# Altium integrated library Microchip Thermal Management.IntLib: 360 symbols (part 10 of 10)
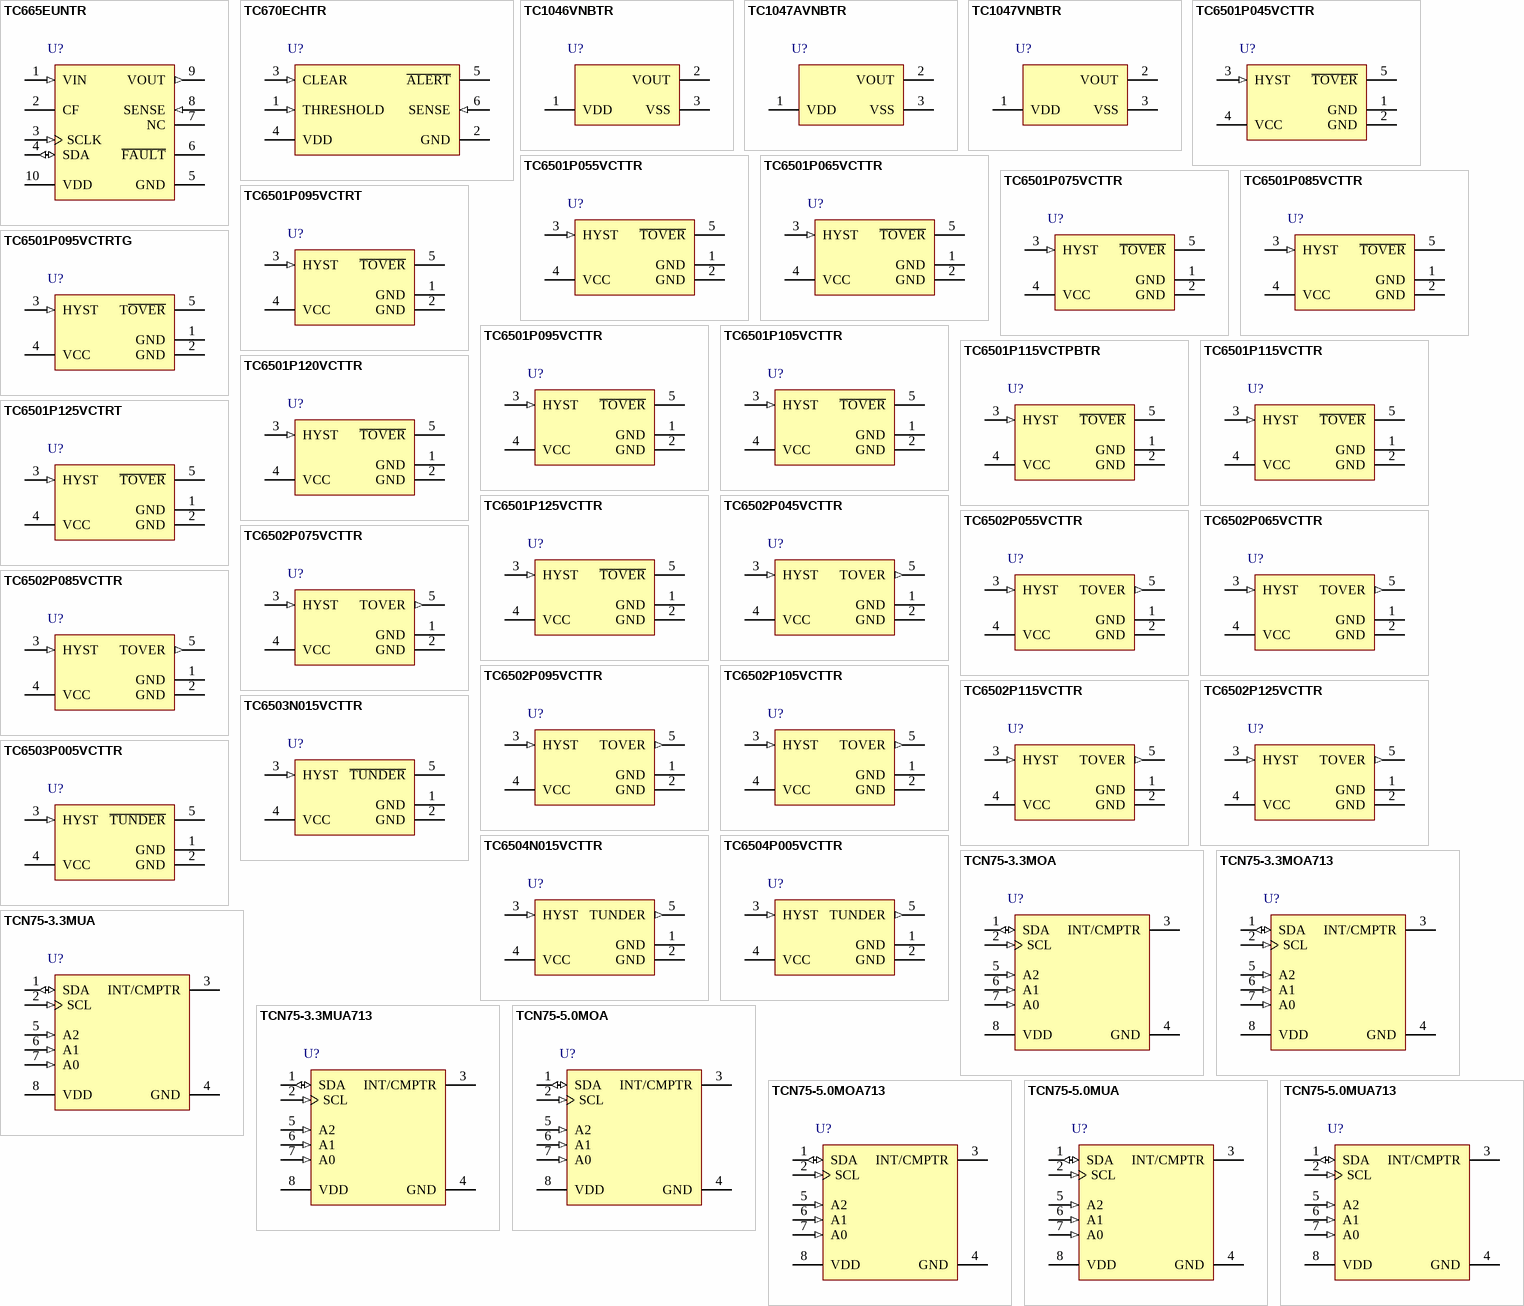
[diagram p18: symbols TC665EUNTR to TCN75-5.0MUA713]

## TC6502P055VCTTR
designator U?
Ultra Small Temperature Switches with Pin Selectable Hysteresis, 5-Pin SOT-23, -55°C to +125°C Temperature, Tape and Reel; Manufacturer: Microchip; PartNumber: TC6502P055VCTTR; DatasheetVersion: revD, Jan-2004; PackageVersion: revBB, Aug-2009; PackageReference: SOT-23-CT5; PackageDescription: 5-Lead Plastic Small Outline Transistor (CT) [SOT-23]; Supplier 1: Digi-Key; Supplier Part Number 1: TC6502P055VCTR-ND; Supplier 2: Digi-Key; Supplier Part Number 2: TC6502P055VCCT-ND; Supplier 3: Digi-Key; Supplier Part Number 3: TC6502P055VCDKR-ND; Supplier 4: Newark; Supplier Part Number 4: 92C6385; Supplier 5: Mouser; Supplier Part Number 5: 579-TC6502P055VCTTR; Mounting Technology: Surface Mount; Code_IPC: SOT23-5; ComponentLink1Description: Manufacturer URL; ComponentLink1URL: http://www.microchip.com/; ComponentLink2Description: Datasheet; ComponentLink2URL: http://ww1.microchip.com/downloads/en/DeviceDoc/21451d.pdf; ComponentLink3Description: Package Specification; ComponentLink3URL: http://www.microchip.com/stellent/groups/techpub_sg/documents/packagingspec/en012702.pdf
footprint SOT-23-CT5_N (SOT23, 5-Leads, Body 2.9x1.6mm, Pitch 0.95mm, Lead Span 2.7mm, IPC Medium Density)
footprint SOT-23-CT5_L (SOT23, 5-Leads, Body 2.9x1.6mm, Pitch 0.95mm, Lead Span 2.7mm, IPC High Density)
footprint SOT-23-CT5_M (SOT23, 5-Leads, Body 2.9x1.6mm, Pitch 0.95mm, Lead Span 2.7mm, IPC Low Density)
pins: 1 GND (power), 2 GND (power), 3 HYST (in), 4 VCC (power), 5 TOVER (out)

## TC6502P065VCTTR
designator U?
Ultra Small Temperature Switches with Pin Selectable Hysteresis, 5-Pin SOT-23, -55°C to +125°C Temperature, Tape and Reel; Manufacturer: Microchip; PartNumber: TC6502P065VCTTR; DatasheetVersion: revD, Jan-2004; PackageVersion: revBB, Aug-2009; PackageReference: SOT-23-CT5; PackageDescription: 5-Lead Plastic Small Outline Transistor (CT) [SOT-23]; Supplier 1: Digi-Key; Supplier Part Number 1: TC6502P065VCTR-ND; Supplier 2: Digi-Key; Supplier Part Number 2: TC6502P065VCCT-ND; Supplier 3: Digi-Key; Supplier Part Number 3: TC6502P065VCDKR-ND; Supplier 4: Farnell; Supplier Part Number 4: 1439504RL; Supplier 5: Farnell; Supplier Part Number 5: 1439504; Supplier 6: Newark; Supplier Part Number 6: 92C6386; Supplier 7: Mouser; Supplier Part Number 7: 579-TC6502P065VCTTR; Mounting Technology: Surface Mount; Code_IPC: SOT23-5; ComponentLink1Description: Manufacturer URL; ComponentLink1URL: http://www.microchip.com/; ComponentLink2Description: Datasheet; ComponentLink2URL: http://ww1.microchip.com/downloads/en/DeviceDoc/21451d.pdf; ComponentLink3Description: Package Specification; ComponentLink3URL: http://www.microchip.com/stellent/groups/techpub_sg/documents/packagingspec/en012702.pdf
footprint SOT-23-CT5_N (SOT23, 5-Leads, Body 2.9x1.6mm, Pitch 0.95mm, Lead Span 2.7mm, IPC Medium Density)
footprint SOT-23-CT5_L (SOT23, 5-Leads, Body 2.9x1.6mm, Pitch 0.95mm, Lead Span 2.7mm, IPC High Density)
footprint SOT-23-CT5_M (SOT23, 5-Leads, Body 2.9x1.6mm, Pitch 0.95mm, Lead Span 2.7mm, IPC Low Density)
pins: 1 GND (power), 2 GND (power), 3 HYST (in), 4 VCC (power), 5 TOVER (out)

## TC6502P075VCTTR
designator U?
Ultra Small Temperature Switches with Pin Selectable Hysteresis, 5-Pin SOT-23, -55°C to +125°C Temperature, Tape and Reel; Manufacturer: Microchip; PartNumber: TC6502P075VCTTR; DatasheetVersion: revD, Jan-2004; PackageVersion: revBB, Aug-2009; PackageReference: SOT-23-CT5; PackageDescription: 5-Lead Plastic Small Outline Transistor (CT) [SOT-23]; Supplier 1: Digi-Key; Supplier Part Number 1: TC6502P075VCTR-ND; Supplier 2: Digi-Key; Supplier Part Number 2: TC6502P075VCCT-ND; Supplier 3: Digi-Key; Supplier Part Number 3: TC6502P075VCDKR-ND; Supplier 4: Newark; Supplier Part Number 4: 92C6387; Supplier 5: Mouser; Supplier Part Number 5: 579-TC6502P075VCTTR; Mounting Technology: Surface Mount; Code_IPC: SOT23-5; ComponentLink1Description: Manufacturer URL; ComponentLink1URL: http://www.microchip.com/; ComponentLink2Description: Datasheet; ComponentLink2URL: http://ww1.microchip.com/downloads/en/DeviceDoc/21451d.pdf; ComponentLink3Description: Package Specification; ComponentLink3URL: http://www.microchip.com/stellent/groups/techpub_sg/documents/packagingspec/en012702.pdf
footprint SOT-23-CT5_N (SOT23, 5-Leads, Body 2.9x1.6mm, Pitch 0.95mm, Lead Span 2.7mm, IPC Medium Density)
footprint SOT-23-CT5_L (SOT23, 5-Leads, Body 2.9x1.6mm, Pitch 0.95mm, Lead Span 2.7mm, IPC High Density)
footprint SOT-23-CT5_M (SOT23, 5-Leads, Body 2.9x1.6mm, Pitch 0.95mm, Lead Span 2.7mm, IPC Low Density)
pins: 1 GND (power), 2 GND (power), 3 HYST (in), 4 VCC (power), 5 TOVER (out)

## TC6502P085VCTTR
designator U?
Ultra Small Temperature Switches with Pin Selectable Hysteresis, 5-Pin SOT-23, -55°C to +125°C Temperature, Tape and Reel; Manufacturer: Microchip; PartNumber: TC6502P085VCTTR; DatasheetVersion: revD, Jan-2004; PackageVersion: revBB, Aug-2009; PackageReference: SOT-23-CT5; PackageDescription: 5-Lead Plastic Small Outline Transistor (CT) [SOT-23]; Supplier 1: Digi-Key; Supplier Part Number 1: TC6502P085VCTR-ND; Supplier 2: Digi-Key; Supplier Part Number 2: TC6502P085VCCT-ND; Supplier 3: Digi-Key; Supplier Part Number 3: TC6502P085VCDKR-ND; Supplier 4: Newark; Supplier Part Number 4: 92C6388; Supplier 5: Mouser; Supplier Part Number 5: 579-TC6502P085VCTTR; Mounting Technology: Surface Mount; Code_IPC: SOT23-5; ComponentLink1Description: Manufacturer URL; ComponentLink1URL: http://www.microchip.com/; ComponentLink2Description: Datasheet; ComponentLink2URL: http://ww1.microchip.com/downloads/en/DeviceDoc/21451d.pdf; ComponentLink3Description: Package Specification; ComponentLink3URL: http://www.microchip.com/stellent/groups/techpub_sg/documents/packagingspec/en012702.pdf
footprint SOT-23-CT5_N (SOT23, 5-Leads, Body 2.9x1.6mm, Pitch 0.95mm, Lead Span 2.7mm, IPC Medium Density)
footprint SOT-23-CT5_L (SOT23, 5-Leads, Body 2.9x1.6mm, Pitch 0.95mm, Lead Span 2.7mm, IPC High Density)
footprint SOT-23-CT5_M (SOT23, 5-Leads, Body 2.9x1.6mm, Pitch 0.95mm, Lead Span 2.7mm, IPC Low Density)
pins: 1 GND (power), 2 GND (power), 3 HYST (in), 4 VCC (power), 5 TOVER (out)

## TC6502P095VCTTR
designator U?
Ultra Small Temperature Switches with Pin Selectable Hysteresis, 5-Pin SOT-23, -55°C to +125°C Temperature, Tape and Reel; Manufacturer: Microchip; PartNumber: TC6502P095VCTTR; DatasheetVersion: revD, Jan-2004; PackageVersion: revBB, Aug-2009; PackageReference: SOT-23-CT5; PackageDescription: 5-Lead Plastic Small Outline Transistor (CT) [SOT-23]; Supplier 1: Digi-Key; Supplier Part Number 1: TC6502P095VCTR-ND; Supplier 2: Digi-Key; Supplier Part Number 2: TC6502P095VCCT-ND; Supplier 3: Digi-Key; Supplier Part Number 3: TC6502P095VCDKR-ND; Supplier 4: Farnell; Supplier Part Number 4: 1439507; Supplier 5: Farnell; Supplier Part Number 5: 1439507RL; Supplier 6: Newark; Supplier Part Number 6: 92C6389; Supplier 7: Mouser; Supplier Part Number 7: 579-TC6502P095VCTTR; Mounting Technology: Surface Mount; Code_IPC: SOT23-5; ComponentLink1Description: Manufacturer URL; ComponentLink1URL: http://www.microchip.com/; ComponentLink2Description: Datasheet; ComponentLink2URL: http://ww1.microchip.com/downloads/en/DeviceDoc/21451d.pdf; ComponentLink3Description: Package Specification; ComponentLink3URL: http://www.microchip.com/stellent/groups/techpub_sg/documents/packagingspec/en012702.pdf
footprint SOT-23-CT5_N (SOT23, 5-Leads, Body 2.9x1.6mm, Pitch 0.95mm, Lead Span 2.7mm, IPC Medium Density)
footprint SOT-23-CT5_L (SOT23, 5-Leads, Body 2.9x1.6mm, Pitch 0.95mm, Lead Span 2.7mm, IPC High Density)
footprint SOT-23-CT5_M (SOT23, 5-Leads, Body 2.9x1.6mm, Pitch 0.95mm, Lead Span 2.7mm, IPC Low Density)
pins: 1 GND (power), 2 GND (power), 3 HYST (in), 4 VCC (power), 5 TOVER (out)

## TC6502P105VCTTR
designator U?
Ultra Small Temperature Switches with Pin Selectable Hysteresis, 5-Pin SOT-23, -55°C to +125°C Temperature, Tape and Reel; Manufacturer: Microchip; PartNumber: TC6502P105VCTTR; DatasheetVersion: revD, Jan-2004; PackageVersion: revBB, Aug-2009; PackageReference: SOT-23-CT5; PackageDescription: 5-Lead Plastic Small Outline Transistor (CT) [SOT-23]; Supplier 1: Digi-Key; Supplier Part Number 1: TC6502P105VCTR-ND; Supplier 2: Digi-Key; Supplier Part Number 2: TC6502P105VCCT-ND; Supplier 3: Digi-Key; Supplier Part Number 3: TC6502P105VCDKR-ND; Supplier 4: Newark; Supplier Part Number 4: 92C6390; Supplier 5: Mouser; Supplier Part Number 5: 579-TC6502P105VCTTR; Mounting Technology: Surface Mount; Code_IPC: SOT23-5; ComponentLink1Description: Manufacturer URL; ComponentLink1URL: http://www.microchip.com/; ComponentLink2Description: Datasheet; ComponentLink2URL: http://ww1.microchip.com/downloads/en/DeviceDoc/21451d.pdf; ComponentLink3Description: Package Specification; ComponentLink3URL: http://www.microchip.com/stellent/groups/techpub_sg/documents/packagingspec/en012702.pdf
footprint SOT-23-CT5_N (SOT23, 5-Leads, Body 2.9x1.6mm, Pitch 0.95mm, Lead Span 2.7mm, IPC Medium Density)
footprint SOT-23-CT5_L (SOT23, 5-Leads, Body 2.9x1.6mm, Pitch 0.95mm, Lead Span 2.7mm, IPC High Density)
footprint SOT-23-CT5_M (SOT23, 5-Leads, Body 2.9x1.6mm, Pitch 0.95mm, Lead Span 2.7mm, IPC Low Density)
pins: 1 GND (power), 2 GND (power), 3 HYST (in), 4 VCC (power), 5 TOVER (out)

## TC6502P115VCTTR
designator U?
Ultra Small Temperature Switches with Pin Selectable Hysteresis, 5-Pin SOT-23, -55°C to +125°C Temperature, Tape and Reel; Manufacturer: Microchip; PartNumber: TC6502P115VCTTR; DatasheetVersion: revD, Jan-2004; PackageVersion: revBB, Aug-2009; PackageReference: SOT-23-CT5; PackageDescription: 5-Lead Plastic Small Outline Transistor (CT) [SOT-23]; Supplier 1: Digi-Key; Supplier Part Number 1: TC6502P115VCTR-ND; Supplier 2: Digi-Key; Supplier Part Number 2: TC6502P115VCCT-ND; Supplier 3: Digi-Key; Supplier Part Number 3: TC6502P115VCDKR-ND; Supplier 4: Newark; Supplier Part Number 4: 92C6391; Supplier 5: Mouser; Supplier Part Number 5: 579-TC6502P115VCTTR; Mounting Technology: Surface Mount; Code_IPC: SOT23-5; ComponentLink1Description: Manufacturer URL; ComponentLink1URL: http://www.microchip.com/; ComponentLink2Description: Datasheet; ComponentLink2URL: http://ww1.microchip.com/downloads/en/DeviceDoc/21451d.pdf; ComponentLink3Description: Package Specification; ComponentLink3URL: http://www.microchip.com/stellent/groups/techpub_sg/documents/packagingspec/en012702.pdf
footprint SOT-23-CT5_N (SOT23, 5-Leads, Body 2.9x1.6mm, Pitch 0.95mm, Lead Span 2.7mm, IPC Medium Density)
footprint SOT-23-CT5_L (SOT23, 5-Leads, Body 2.9x1.6mm, Pitch 0.95mm, Lead Span 2.7mm, IPC High Density)
footprint SOT-23-CT5_M (SOT23, 5-Leads, Body 2.9x1.6mm, Pitch 0.95mm, Lead Span 2.7mm, IPC Low Density)
pins: 1 GND (power), 2 GND (power), 3 HYST (in), 4 VCC (power), 5 TOVER (out)

## TC6502P125VCTTR
designator U?
Ultra Small Temperature Switches with Pin Selectable Hysteresis, 5-Pin SOT-23, -55°C to +125°C Temperature, Tape and Reel; Manufacturer: Microchip; PartNumber: TC6502P125VCTTR; DatasheetVersion: revD, Jan-2004; PackageVersion: revBB, Aug-2009; PackageReference: SOT-23-CT5; PackageDescription: 5-Lead Plastic Small Outline Transistor (CT) [SOT-23]; Supplier 1: Digi-Key; Supplier Part Number 1: TC6502P125VCTTR-ND; Supplier 2: Digi-Key; Supplier Part Number 2: TC6502P125VCTTCT-ND; Supplier 3: Digi-Key; Supplier Part Number 3: TC6502P125VCTTDKR-ND; Supplier 4: Newark; Supplier Part Number 4: 89H1721; Supplier 5: Mouser; Supplier Part Number 5: 579-TC6502P125VCTTR; Mounting Technology: Surface Mount; Code_IPC: SOT23-5; ComponentLink1Description: Manufacturer URL; ComponentLink1URL: http://www.microchip.com/; ComponentLink2Description: Datasheet; ComponentLink2URL: http://ww1.microchip.com/downloads/en/DeviceDoc/21451d.pdf; ComponentLink3Description: Package Specification; ComponentLink3URL: http://www.microchip.com/stellent/groups/techpub_sg/documents/packagingspec/en012702.pdf
footprint SOT-23-CT5_N (SOT23, 5-Leads, Body 2.9x1.6mm, Pitch 0.95mm, Lead Span 2.7mm, IPC Medium Density)
footprint SOT-23-CT5_L (SOT23, 5-Leads, Body 2.9x1.6mm, Pitch 0.95mm, Lead Span 2.7mm, IPC High Density)
footprint SOT-23-CT5_M (SOT23, 5-Leads, Body 2.9x1.6mm, Pitch 0.95mm, Lead Span 2.7mm, IPC Low Density)
pins: 1 GND (power), 2 GND (power), 3 HYST (in), 4 VCC (power), 5 TOVER (out)

## TC6503N015VCTTR
designator U?
Ultra Small Temperature Switches with Pin Selectable Hysteresis, 5-Pin SOT-23, -55°C to +125°C Temperature, Tape and Reel; Manufacturer: Microchip; PartNumber: TC6503N015VCTTR; DatasheetVersion: revD, Jan-2004; PackageVersion: revBB, Aug-2009; PackageReference: SOT-23-CT5; PackageDescription: 5-Lead Plastic Small Outline Transistor (CT) [SOT-23]; Supplier 1: Digi-Key; Supplier Part Number 1: TC6503N015VCTTR-ND; Supplier 2: Digi-Key; Supplier Part Number 2: TC6503N015VCTCT-ND; Supplier 3: Digi-Key; Supplier Part Number 3: TC6503N015VCTDKR-ND; Supplier 4: Newark; Supplier Part Number 4: 92C6392; Supplier 5: Mouser; Supplier Part Number 5: 579-TC6503N015VCTTR; Mounting Technology: Surface Mount; Code_IPC: SOT23-5; ComponentLink1Description: Manufacturer URL; ComponentLink1URL: http://www.microchip.com/; ComponentLink2Description: Datasheet; ComponentLink2URL: http://ww1.microchip.com/downloads/en/DeviceDoc/21451d.pdf; ComponentLink3Description: Package Specification; ComponentLink3URL: http://www.microchip.com/stellent/groups/techpub_sg/documents/packagingspec/en012702.pdf
footprint SOT-23-CT5_N (SOT23, 5-Leads, Body 2.9x1.6mm, Pitch 0.95mm, Lead Span 2.7mm, IPC Medium Density)
footprint SOT-23-CT5_L (SOT23, 5-Leads, Body 2.9x1.6mm, Pitch 0.95mm, Lead Span 2.7mm, IPC High Density)
footprint SOT-23-CT5_M (SOT23, 5-Leads, Body 2.9x1.6mm, Pitch 0.95mm, Lead Span 2.7mm, IPC Low Density)
pins: 1 GND (power), 2 GND (power), 3 HYST (in), 4 VCC (power), 5 ~{TUNDER} (oc)

## TC6503P005VCTTR
designator U?
Ultra Small Temperature Switches with Pin Selectable Hysteresis, 5-Pin SOT-23, -55°C to +125°C Temperature, Tape and Reel; Manufacturer: Microchip; PartNumber: TC6503P005VCTTR; DatasheetVersion: revD, Jan-2004; PackageVersion: revBB, Aug-2009; PackageReference: SOT-23-CT5; PackageDescription: 5-Lead Plastic Small Outline Transistor (CT) [SOT-23]; Supplier 1: Digi-Key; Supplier Part Number 1: TC6503P005VCTTR-ND; Supplier 2: Digi-Key; Supplier Part Number 2: TC6503P005VCTCT-ND; Supplier 3: Digi-Key; Supplier Part Number 3: TC6503P005VCTDKR-ND; Supplier 4: Newark; Supplier Part Number 4: 92C6393; Supplier 5: Mouser; Supplier Part Number 5: 579-TC6503P005VCTTR; Mounting Technology: Surface Mount; Code_IPC: SOT23-5; ComponentLink1Description: Manufacturer URL; ComponentLink1URL: http://www.microchip.com/; ComponentLink2Description: Datasheet; ComponentLink2URL: http://ww1.microchip.com/downloads/en/DeviceDoc/21451d.pdf; ComponentLink3Description: Package Specification; ComponentLink3URL: http://www.microchip.com/stellent/groups/techpub_sg/documents/packagingspec/en012702.pdf
footprint SOT-23-CT5_N (SOT23, 5-Leads, Body 2.9x1.6mm, Pitch 0.95mm, Lead Span 2.7mm, IPC Medium Density)
footprint SOT-23-CT5_L (SOT23, 5-Leads, Body 2.9x1.6mm, Pitch 0.95mm, Lead Span 2.7mm, IPC High Density)
footprint SOT-23-CT5_M (SOT23, 5-Leads, Body 2.9x1.6mm, Pitch 0.95mm, Lead Span 2.7mm, IPC Low Density)
pins: 1 GND (power), 2 GND (power), 3 HYST (in), 4 VCC (power), 5 ~{TUNDER} (oc)

## TC6504N015VCTTR
designator U?
Ultra Small Temperature Switches with Pin Selectable Hysteresis, 5-Pin SOT-23, -55°C to +125°C Temperature, Tape and Reel; Manufacturer: Microchip; PartNumber: TC6504N015VCTTR; DatasheetVersion: revD, Jan-2004; PackageVersion: revBB, Aug-2009; PackageReference: SOT-23-CT5; PackageDescription: 5-Lead Plastic Small Outline Transistor (CT) [SOT-23]; Supplier 1: Digi-Key; Supplier Part Number 1: TC6504N015VCTTR-ND; Supplier 2: Digi-Key; Supplier Part Number 2: TC6504N015VCTCT-ND; Supplier 3: Digi-Key; Supplier Part Number 3: TC6504N015VCTDKR-ND; Supplier 4: Newark; Supplier Part Number 4: 92C6394; Supplier 5: Mouser; Supplier Part Number 5: 579-TC6504N015VCTTR; Mounting Technology: Surface Mount; Code_IPC: SOT23-5; ComponentLink1Description: Manufacturer URL; ComponentLink1URL: http://www.microchip.com/; ComponentLink2Description: Datasheet; ComponentLink2URL: http://ww1.microchip.com/downloads/en/DeviceDoc/21451d.pdf; ComponentLink3Description: Package Specification; ComponentLink3URL: http://www.microchip.com/stellent/groups/techpub_sg/documents/packagingspec/en012702.pdf
footprint SOT-23-CT5_N (SOT23, 5-Leads, Body 2.9x1.6mm, Pitch 0.95mm, Lead Span 2.7mm, IPC Medium Density)
footprint SOT-23-CT5_L (SOT23, 5-Leads, Body 2.9x1.6mm, Pitch 0.95mm, Lead Span 2.7mm, IPC High Density)
footprint SOT-23-CT5_M (SOT23, 5-Leads, Body 2.9x1.6mm, Pitch 0.95mm, Lead Span 2.7mm, IPC Low Density)
pins: 1 GND (power), 2 GND (power), 3 HYST (in), 4 VCC (power), 5 TUNDER (out)

## TC6504P005VCTTR
designator U?
Ultra Small Temperature Switches with Pin Selectable Hysteresis, 5-Pin SOT-23, -55°C to +125°C Temperature, Tape and Reel; Manufacturer: Microchip; PartNumber: TC6504P005VCTTR; DatasheetVersion: revD, Jan-2004; PackageVersion: revBB, Aug-2009; PackageReference: SOT-23-CT5; PackageDescription: 5-Lead Plastic Small Outline Transistor (CT) [SOT-23]; Supplier 1: Digi-Key; Supplier Part Number 1: TC6504P005VCTTR-ND; Supplier 2: Digi-Key; Supplier Part Number 2: TC6504P005VCTCT-ND; Supplier 3: Digi-Key; Supplier Part Number 3: TC6504P005VCTDKR-ND; Supplier 4: Newark; Supplier Part Number 4: 92C6395; Supplier 5: Mouser; Supplier Part Number 5: 579-TC6504P005VCTTR; Mounting Technology: Surface Mount; Code_IPC: SOT23-5; ComponentLink1Description: Manufacturer URL; ComponentLink1URL: http://www.microchip.com/; ComponentLink2Description: Datasheet; ComponentLink2URL: http://ww1.microchip.com/downloads/en/DeviceDoc/21451d.pdf; ComponentLink3Description: Package Specification; ComponentLink3URL: http://www.microchip.com/stellent/groups/techpub_sg/documents/packagingspec/en012702.pdf
footprint SOT-23-CT5_N (SOT23, 5-Leads, Body 2.9x1.6mm, Pitch 0.95mm, Lead Span 2.7mm, IPC Medium Density)
footprint SOT-23-CT5_L (SOT23, 5-Leads, Body 2.9x1.6mm, Pitch 0.95mm, Lead Span 2.7mm, IPC High Density)
footprint SOT-23-CT5_M (SOT23, 5-Leads, Body 2.9x1.6mm, Pitch 0.95mm, Lead Span 2.7mm, IPC Low Density)
pins: 1 GND (power), 2 GND (power), 3 HYST (in), 4 VCC (power), 5 TUNDER (out)

## TCN75-3.3MOA
designator U?
2-Wire Serial Temperature Sensor and Thermal Monitor, 8-Pin SOIC, -55°C to +125°C Temperature; Manufacturer: Microchip; PartNumber: TCN75-3.3MOA; DatasheetVersion: revC, Feb-2006; PackageVersion: revBB, Aug-2009; PackageReference: SOIC-OA8; PackageDescription: 8-Lead Plastic Small Outline (OA) - Narrow, 3.90mm Body [SOIC]; Supplier 1: Digi-Key; Supplier Part Number 1: TCN75-3.3MOA-ND; Supplier 2: Newark; Supplier Part Number 2: 80K6157; Supplier 3: Mouser; Supplier Part Number 3: 579-TCN75-3.3MOA; Mounting Technology: Surface Mount; Code_IPC: SOIC127P600-8; ComponentLink1Description: Manufacturer URL; ComponentLink1URL: http://www.microchip.com/; ComponentLink2Description: Datasheet; ComponentLink2URL: http://ww1.microchip.com/downloads/en/DeviceDoc/21490C.pdf; ComponentLink3Description: Package Specification; ComponentLink3URL: http://www.microchip.com/stellent/groups/techpub_sg/documents/packagingspec/en012702.pdf
footprint SOIC-OA8_N (SOIC, 8-Leads, Body 4.9x3.9mm, Pitch 1.27mm, IPC Medium Density)
footprint SOIC-OA8_L (SOIC, 8-Leads, Body 4.9x3.9mm, Pitch 1.27mm, IPC High Density)
footprint SOIC-OA8_M (SOIC, 8-Leads, Body 4.9x3.9mm, Pitch 1.27mm, IPC Low Density)
pins: 1 SDA (io), 2 SCL (in), 3 INT/CMPTR (oc), 4 GND (power), 5 A2 (in), 6 A1 (in), 7 A0 (in), 8 VDD (power)

## TCN75-3.3MOA713
designator U?
2-Wire Serial Temperature Sensor and Thermal Monitor, 8-Pin SOIC, -55°C to +125°C Temperature, Tape and Reel; Manufacturer: Microchip; PartNumber: TCN75-3.3MOA713; DatasheetVersion: revC, Feb-2006; PackageVersion: revBB, Aug-2009; PackageReference: SOIC-OA8; PackageDescription: 8-Lead Plastic Small Outline (OA) - Narrow, 3.90mm Body [SOIC]; Supplier 1: Digi-Key; Supplier Part Number 1: TCN75-3.3MOA713-ND; Supplier 2: Mouser; Supplier Part Number 2: 579-TCN75-3.3MOA713; Mounting Technology: Surface Mount; Code_IPC: SOIC127P600-8; ComponentLink1Description: Manufacturer URL; ComponentLink1URL: http://www.microchip.com/; ComponentLink2Description: Datasheet; ComponentLink2URL: http://ww1.microchip.com/downloads/en/DeviceDoc/21490C.pdf; ComponentLink3Description: Package Specification; ComponentLink3URL: http://www.microchip.com/stellent/groups/techpub_sg/documents/packagingspec/en012702.pdf
footprint SOIC-OA8_N (SOIC, 8-Leads, Body 4.9x3.9mm, Pitch 1.27mm, IPC Medium Density)
footprint SOIC-OA8_L (SOIC, 8-Leads, Body 4.9x3.9mm, Pitch 1.27mm, IPC High Density)
footprint SOIC-OA8_M (SOIC, 8-Leads, Body 4.9x3.9mm, Pitch 1.27mm, IPC Low Density)
pins: 1 SDA (io), 2 SCL (in), 3 INT/CMPTR (oc), 4 GND (power), 5 A2 (in), 6 A1 (in), 7 A0 (in), 8 VDD (power)

## TCN75-3.3MUA
designator U?
2-Wire Serial Temperature Sensor and Thermal Monitor, 8-Pin MSOP, -55°C to +125°C Temperature; Manufacturer: Microchip; PartNumber: TCN75-3.3MUA; DatasheetVersion: revC, Feb-2006; PackageVersion: revBB, Aug-2009; PackageReference: MSOP-UA8; PackageDescription: 8-Lead Plastic Micro Small Outline Package (UA) [MSOP]; Supplier 1: Digi-Key; Supplier Part Number 1: TCN75-3.3MUA-ND; Supplier 2: Newark; Supplier Part Number 2: 33C1105; Supplier 3: Mouser; Supplier Part Number 3: 579-TCN753.3MUA; Mounting Technology: Surface Mount; Code_JEDEC: MO-187-AA; ComponentLink1Description: Manufacturer URL; ComponentLink1URL: http://www.microchip.com/; ComponentLink2Description: Datasheet; ComponentLink2URL: http://ww1.microchip.com/downloads/en/DeviceDoc/21490C.pdf; ComponentLink3Description: Package Specification; ComponentLink3URL: http://www.microchip.com/stellent/groups/techpub_sg/documents/packagingspec/en012702.pdf
footprint MSOP-UA8_N (TSOP, 8-Leads, Body 3x3mm, Pitch 0.65mm, IPC Medium Density)
footprint MSOP-UA8_L (TSOP, 8-Leads, Body 3x3mm, Pitch 0.65mm, IPC High Density)
footprint MSOP-UA8_M (TSOP, 8-Leads, Body 3x3mm, Pitch 0.65mm, IPC Low Density)
pins: 1 SDA (io), 2 SCL (in), 3 INT/CMPTR (oc), 4 GND (power), 5 A2 (in), 6 A1 (in), 7 A0 (in), 8 VDD (power)

## TCN75-3.3MUA713
designator U?
2-Wire Serial Temperature Sensor and Thermal Monitor, 8-Pin MSOP, -55°C to +125°C Temperature, Tape and Reel; Manufacturer: Microchip; PartNumber: TCN75-3.3MUA713; DatasheetVersion: revC, Feb-2006; PackageVersion: revBB, Aug-2009; PackageReference: MSOP-UA8; PackageDescription: 8-Lead Plastic Micro Small Outline Package (UA) [MSOP]; Supplier 1: Digi-Key; Supplier Part Number 1: TCN75-3.3MUA713-ND; Supplier 2: Mouser; Supplier Part Number 2: 579-TCN75-3.3MUA713; Mounting Technology: Surface Mount; Code_JEDEC: MO-187-AA; ComponentLink1Description: Manufacturer URL; ComponentLink1URL: http://www.microchip.com/; ComponentLink2Description: Datasheet; ComponentLink2URL: http://ww1.microchip.com/downloads/en/DeviceDoc/21490C.pdf; ComponentLink3Description: Package Specification; ComponentLink3URL: http://www.microchip.com/stellent/groups/techpub_sg/documents/packagingspec/en012702.pdf
footprint MSOP-UA8_N (TSOP, 8-Leads, Body 3x3mm, Pitch 0.65mm, IPC Medium Density)
footprint MSOP-UA8_L (TSOP, 8-Leads, Body 3x3mm, Pitch 0.65mm, IPC High Density)
footprint MSOP-UA8_M (TSOP, 8-Leads, Body 3x3mm, Pitch 0.65mm, IPC Low Density)
pins: 1 SDA (io), 2 SCL (in), 3 INT/CMPTR (oc), 4 GND (power), 5 A2 (in), 6 A1 (in), 7 A0 (in), 8 VDD (power)

## TCN75-5.0MOA
designator U?
2-Wire Serial Temperature Sensor and Thermal Monitor, 8-Pin SOIC, -55°C to +125°C Temperature; Manufacturer: Microchip; PartNumber: TCN75-5.0MOA; DatasheetVersion: revC, Feb-2006; PackageVersion: revBB, Aug-2009; PackageReference: SOIC-OA8; PackageDescription: 8-Lead Plastic Small Outline (OA) - Narrow, 3.90mm Body [SOIC]; Supplier 1: Digi-Key; Supplier Part Number 1: TCN75-5.0MOA-ND; Supplier 2: Farnell; Supplier Part Number 2: 1212686; Supplier 3: Newark; Supplier Part Number 3: 33C1106; Supplier 4: Mouser; Supplier Part Number 4: 579-TCN755.0MOA; Mounting Technology: Surface Mount; Code_IPC: SOIC127P600-8; ComponentLink1Description: Manufacturer URL; ComponentLink1URL: http://www.microchip.com/; ComponentLink2Description: Datasheet; ComponentLink2URL: http://ww1.microchip.com/downloads/en/DeviceDoc/21490C.pdf; ComponentLink3Description: Package Specification; ComponentLink3URL: http://www.microchip.com/stellent/groups/techpub_sg/documents/packagingspec/en012702.pdf
footprint SOIC-OA8_N (SOIC, 8-Leads, Body 4.9x3.9mm, Pitch 1.27mm, IPC Medium Density)
footprint SOIC-OA8_L (SOIC, 8-Leads, Body 4.9x3.9mm, Pitch 1.27mm, IPC High Density)
footprint SOIC-OA8_M (SOIC, 8-Leads, Body 4.9x3.9mm, Pitch 1.27mm, IPC Low Density)
pins: 1 SDA (io), 2 SCL (in), 3 INT/CMPTR (oc), 4 GND (power), 5 A2 (in), 6 A1 (in), 7 A0 (in), 8 VDD (power)

## TCN75-5.0MOA713
designator U?
2-Wire Serial Temperature Sensor and Thermal Monitor, 8-Pin SOIC, -55°C to +125°C Temperature, Tape and Reel; Manufacturer: Microchip; PartNumber: TCN75-5.0MOA713; DatasheetVersion: revC, Feb-2006; PackageVersion: revBB, Aug-2009; PackageReference: SOIC-OA8; PackageDescription: 8-Lead Plastic Small Outline (OA) - Narrow, 3.90mm Body [SOIC]; Supplier 1: Digi-Key; Supplier Part Number 1: TCN75-5.0MOA713-ND; Supplier 2: Mouser; Supplier Part Number 2: 579-TCN75-5.0MOA713; Mounting Technology: Surface Mount; Code_IPC: SOIC127P600-8; ComponentLink1Description: Manufacturer URL; ComponentLink1URL: http://www.microchip.com/; ComponentLink2Description: Datasheet; ComponentLink2URL: http://ww1.microchip.com/downloads/en/DeviceDoc/21490C.pdf; ComponentLink3Description: Package Specification; ComponentLink3URL: http://www.microchip.com/stellent/groups/techpub_sg/documents/packagingspec/en012702.pdf
footprint SOIC-OA8_N (SOIC, 8-Leads, Body 4.9x3.9mm, Pitch 1.27mm, IPC Medium Density)
footprint SOIC-OA8_L (SOIC, 8-Leads, Body 4.9x3.9mm, Pitch 1.27mm, IPC High Density)
footprint SOIC-OA8_M (SOIC, 8-Leads, Body 4.9x3.9mm, Pitch 1.27mm, IPC Low Density)
pins: 1 SDA (io), 2 SCL (in), 3 INT/CMPTR (oc), 4 GND (power), 5 A2 (in), 6 A1 (in), 7 A0 (in), 8 VDD (power)

## TCN75-5.0MUA
designator U?
2-Wire Serial Temperature Sensor and Thermal Monitor, 8-Pin MSOP, -55°C to +125°C Temperature; Manufacturer: Microchip; PartNumber: TCN75-5.0MUA; DatasheetVersion: revC, Feb-2006; PackageVersion: revBB, Aug-2009; PackageReference: MSOP-UA8; PackageDescription: 8-Lead Plastic Micro Small Outline Package (UA) [MSOP]; Supplier 1: Digi-Key; Supplier Part Number 1: TCN75-5.0MUA-ND; Supplier 2: Newark; Supplier Part Number 2: 68K5865; Supplier 3: Mouser; Supplier Part Number 3: 579-TCN755.0MUA; Mounting Technology: Surface Mount; Code_JEDEC: MO-187-AA; ComponentLink1Description: Manufacturer URL; ComponentLink1URL: http://www.microchip.com/; ComponentLink2Description: Datasheet; ComponentLink2URL: http://ww1.microchip.com/downloads/en/DeviceDoc/21490C.pdf; ComponentLink3Description: Package Specification; ComponentLink3URL: http://www.microchip.com/stellent/groups/techpub_sg/documents/packagingspec/en012702.pdf
footprint MSOP-UA8_N (TSOP, 8-Leads, Body 3x3mm, Pitch 0.65mm, IPC Medium Density)
footprint MSOP-UA8_L (TSOP, 8-Leads, Body 3x3mm, Pitch 0.65mm, IPC High Density)
footprint MSOP-UA8_M (TSOP, 8-Leads, Body 3x3mm, Pitch 0.65mm, IPC Low Density)
pins: 1 SDA (io), 2 SCL (in), 3 INT/CMPTR (oc), 4 GND (power), 5 A2 (in), 6 A1 (in), 7 A0 (in), 8 VDD (power)

## TCN75-5.0MUA713
designator U?
2-Wire Serial Temperature Sensor and Thermal Monitor, 8-Pin MSOP, -55°C to +125°C Temperature, Tape and Reel; Manufacturer: Microchip; PartNumber: TCN75-5.0MUA713; DatasheetVersion: revC, Feb-2006; PackageVersion: revBB, Aug-2009; PackageReference: MSOP-UA8; PackageDescription: 8-Lead Plastic Micro Small Outline Package (UA) [MSOP]; Supplier 1: Digi-Key; Supplier Part Number 1: TCN75-5.0MUA713-ND; Supplier 2: Mouser; Supplier Part Number 2: 579-TCN75-5.0MUA713; Mounting Technology: Surface Mount; Code_JEDEC: MO-187-AA; ComponentLink1Description: Manufacturer URL; ComponentLink1URL: http://www.microchip.com/; ComponentLink2Description: Datasheet; ComponentLink2URL: http://ww1.microchip.com/downloads/en/DeviceDoc/21490C.pdf; ComponentLink3Description: Package Specification; ComponentLink3URL: http://www.microchip.com/stellent/groups/techpub_sg/documents/packagingspec/en012702.pdf
footprint MSOP-UA8_N (TSOP, 8-Leads, Body 3x3mm, Pitch 0.65mm, IPC Medium Density)
footprint MSOP-UA8_L (TSOP, 8-Leads, Body 3x3mm, Pitch 0.65mm, IPC High Density)
footprint MSOP-UA8_M (TSOP, 8-Leads, Body 3x3mm, Pitch 0.65mm, IPC Low Density)
pins: 1 SDA (io), 2 SCL (in), 3 INT/CMPTR (oc), 4 GND (power), 5 A2 (in), 6 A1 (in), 7 A0 (in), 8 VDD (power)

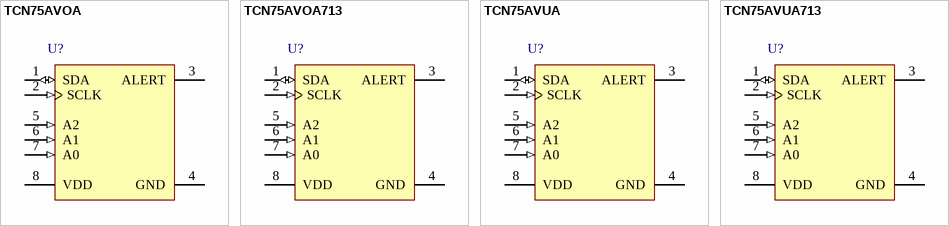
[diagram p9: symbols TCN75AVOA to TCN75AVUA713]

## TCN75AVOA
designator U?
2-Wire Serial Temperature Sensor, 8-Pin SOIC, Extended Temperature; Manufacturer: Microchip; PartNumber: TCN75AVOA; DatasheetVersion: revC, Nov-2006; PackageVersion: revBB, Aug-2009; PackageReference: SOIC-OA8; PackageDescription: 8-Lead Plastic Small Outline (OA) - Narrow, 3.90mm Body [SOIC]; Supplier 1: Digi-Key; Supplier Part Number 1: TCN75AVOA-ND; Supplier 2: Newark; Supplier Part Number 2: 71J7900; Supplier 3: Mouser; Supplier Part Number 3: 579-TCN75AVOA; Mounting Technology: Surface Mount; Code_IPC: SOIC127P600-8; ComponentLink1Description: Manufacturer URL; ComponentLink1URL: http://www.microchip.com/; ComponentLink2Description: Datasheet; ComponentLink2URL: http://ww1.microchip.com/downloads/en/DeviceDoc/21935c.pdf; ComponentLink3Description: Package Specification; ComponentLink3URL: http://www.microchip.com/stellent/groups/techpub_sg/documents/packagingspec/en012702.pdf
footprint SOIC-OA8_N (SOIC, 8-Leads, Body 4.9x3.9mm, Pitch 1.27mm, IPC Medium Density)
footprint SOIC-OA8_L (SOIC, 8-Leads, Body 4.9x3.9mm, Pitch 1.27mm, IPC High Density)
footprint SOIC-OA8_M (SOIC, 8-Leads, Body 4.9x3.9mm, Pitch 1.27mm, IPC Low Density)
pins: 1 SDA (io), 2 SCLK (in), 3 ALERT (oc), 4 GND (power), 5 A2 (in), 6 A1 (in), 7 A0 (in), 8 VDD (power)

## TCN75AVOA713
designator U?
2-Wire Serial Temperature Sensor, 8-Pin SOIC, Extended Temperature, Tape and Reel; Manufacturer: Microchip; PartNumber: TCN75AVOA713; DatasheetVersion: revC, Nov-2006; PackageVersion: revBB, Aug-2009; PackageReference: SOIC-OA8; PackageDescription: 8-Lead Plastic Small Outline (OA) - Narrow, 3.90mm Body [SOIC]; Supplier 1: Digi-Key; Supplier Part Number 1: TCN75AVOA713-ND; Supplier 2: Mouser; Supplier Part Number 2: 579-TCN75AVOA713; Mounting Technology: Surface Mount; Code_IPC: SOIC127P600-8; ComponentLink1Description: Manufacturer URL; ComponentLink1URL: http://www.microchip.com/; ComponentLink2Description: Datasheet; ComponentLink2URL: http://ww1.microchip.com/downloads/en/DeviceDoc/21935c.pdf; ComponentLink3Description: Package Specification; ComponentLink3URL: http://www.microchip.com/stellent/groups/techpub_sg/documents/packagingspec/en012702.pdf
footprint SOIC-OA8_N (SOIC, 8-Leads, Body 4.9x3.9mm, Pitch 1.27mm, IPC Medium Density)
footprint SOIC-OA8_L (SOIC, 8-Leads, Body 4.9x3.9mm, Pitch 1.27mm, IPC High Density)
footprint SOIC-OA8_M (SOIC, 8-Leads, Body 4.9x3.9mm, Pitch 1.27mm, IPC Low Density)
pins: 1 SDA (io), 2 SCLK (in), 3 ALERT (oc), 4 GND (power), 5 A2 (in), 6 A1 (in), 7 A0 (in), 8 VDD (power)

## TCN75AVUA
designator U?
2-Wire Serial Temperature Sensor, 8-Pin MSOP, Extended Temperature; Manufacturer: Microchip; PartNumber: TCN75AVUA; DatasheetVersion: revC, Nov-2006; PackageVersion: revBB, Aug-2009; PackageReference: MSOP-UA8; PackageDescription: 8-Lead Plastic Micro Small Outline Package (UA) [MSOP]; Supplier 1: Digi-Key; Supplier Part Number 1: TCN75AVUA-ND; Supplier 2: Newark; Supplier Part Number 2: 71J7902; Supplier 3: Mouser; Supplier Part Number 3: 579-TCN75AVUA; Mounting Technology: Surface Mount; Code_JEDEC: MO-187-AA; ComponentLink1Description: Manufacturer URL; ComponentLink1URL: http://www.microchip.com/; ComponentLink2Description: Datasheet; ComponentLink2URL: http://ww1.microchip.com/downloads/en/DeviceDoc/21935c.pdf; ComponentLink3Description: Package Specification; ComponentLink3URL: http://www.microchip.com/stellent/groups/techpub_sg/documents/packagingspec/en012702.pdf
footprint MSOP-UA8_N (TSOP, 8-Leads, Body 3x3mm, Pitch 0.65mm, IPC Medium Density)
footprint MSOP-UA8_L (TSOP, 8-Leads, Body 3x3mm, Pitch 0.65mm, IPC High Density)
footprint MSOP-UA8_M (TSOP, 8-Leads, Body 3x3mm, Pitch 0.65mm, IPC Low Density)
pins: 1 SDA (io), 2 SCLK (in), 3 ALERT (oc), 4 GND (power), 5 A2 (in), 6 A1 (in), 7 A0 (in), 8 VDD (power)

## TCN75AVUA713
designator U?
2-Wire Serial Temperature Sensor, 8-Pin MSOP, Extended Temperature, Tape and Reel; Manufacturer: Microchip; PartNumber: TCN75AVUA713; DatasheetVersion: revC, Nov-2006; PackageVersion: revBB, Aug-2009; PackageReference: MSOP-UA8; PackageDescription: 8-Lead Plastic Micro Small Outline Package (UA) [MSOP]; Supplier 1: Digi-Key; Supplier Part Number 1: TCN75AVUA713-ND; Supplier 2: Newark; Supplier Part Number 2: 71J7903; Supplier 3: Mouser; Supplier Part Number 3: 579-TCN75AVUA713; Mounting Technology: Surface Mount; Code_JEDEC: MO-187-AA; ComponentLink1Description: Manufacturer URL; ComponentLink1URL: http://www.microchip.com/; ComponentLink2Description: Datasheet; ComponentLink2URL: http://ww1.microchip.com/downloads/en/DeviceDoc/21935c.pdf; ComponentLink3Description: Package Specification; ComponentLink3URL: http://www.microchip.com/stellent/groups/techpub_sg/documents/packagingspec/en012702.pdf
footprint MSOP-UA8_N (TSOP, 8-Leads, Body 3x3mm, Pitch 0.65mm, IPC Medium Density)
footprint MSOP-UA8_L (TSOP, 8-Leads, Body 3x3mm, Pitch 0.65mm, IPC High Density)
footprint MSOP-UA8_M (TSOP, 8-Leads, Body 3x3mm, Pitch 0.65mm, IPC Low Density)
pins: 1 SDA (io), 2 SCLK (in), 3 ALERT (oc), 4 GND (power), 5 A2 (in), 6 A1 (in), 7 A0 (in), 8 VDD (power)